# Altium footprint library SparkFun-Electromechanical.PCBLIB: 17 footprints (part 1 of 2)
Each footprint in its own frame and in the unit in brackets; x right, y up, seen from the top. Pads: shape width x height; smd on the part's side, far side on the other; paste and mask are expansions set on the pad; w line width, h text height; cw(c..) or ccw(c..) is an arc to the next point about the centre after c.
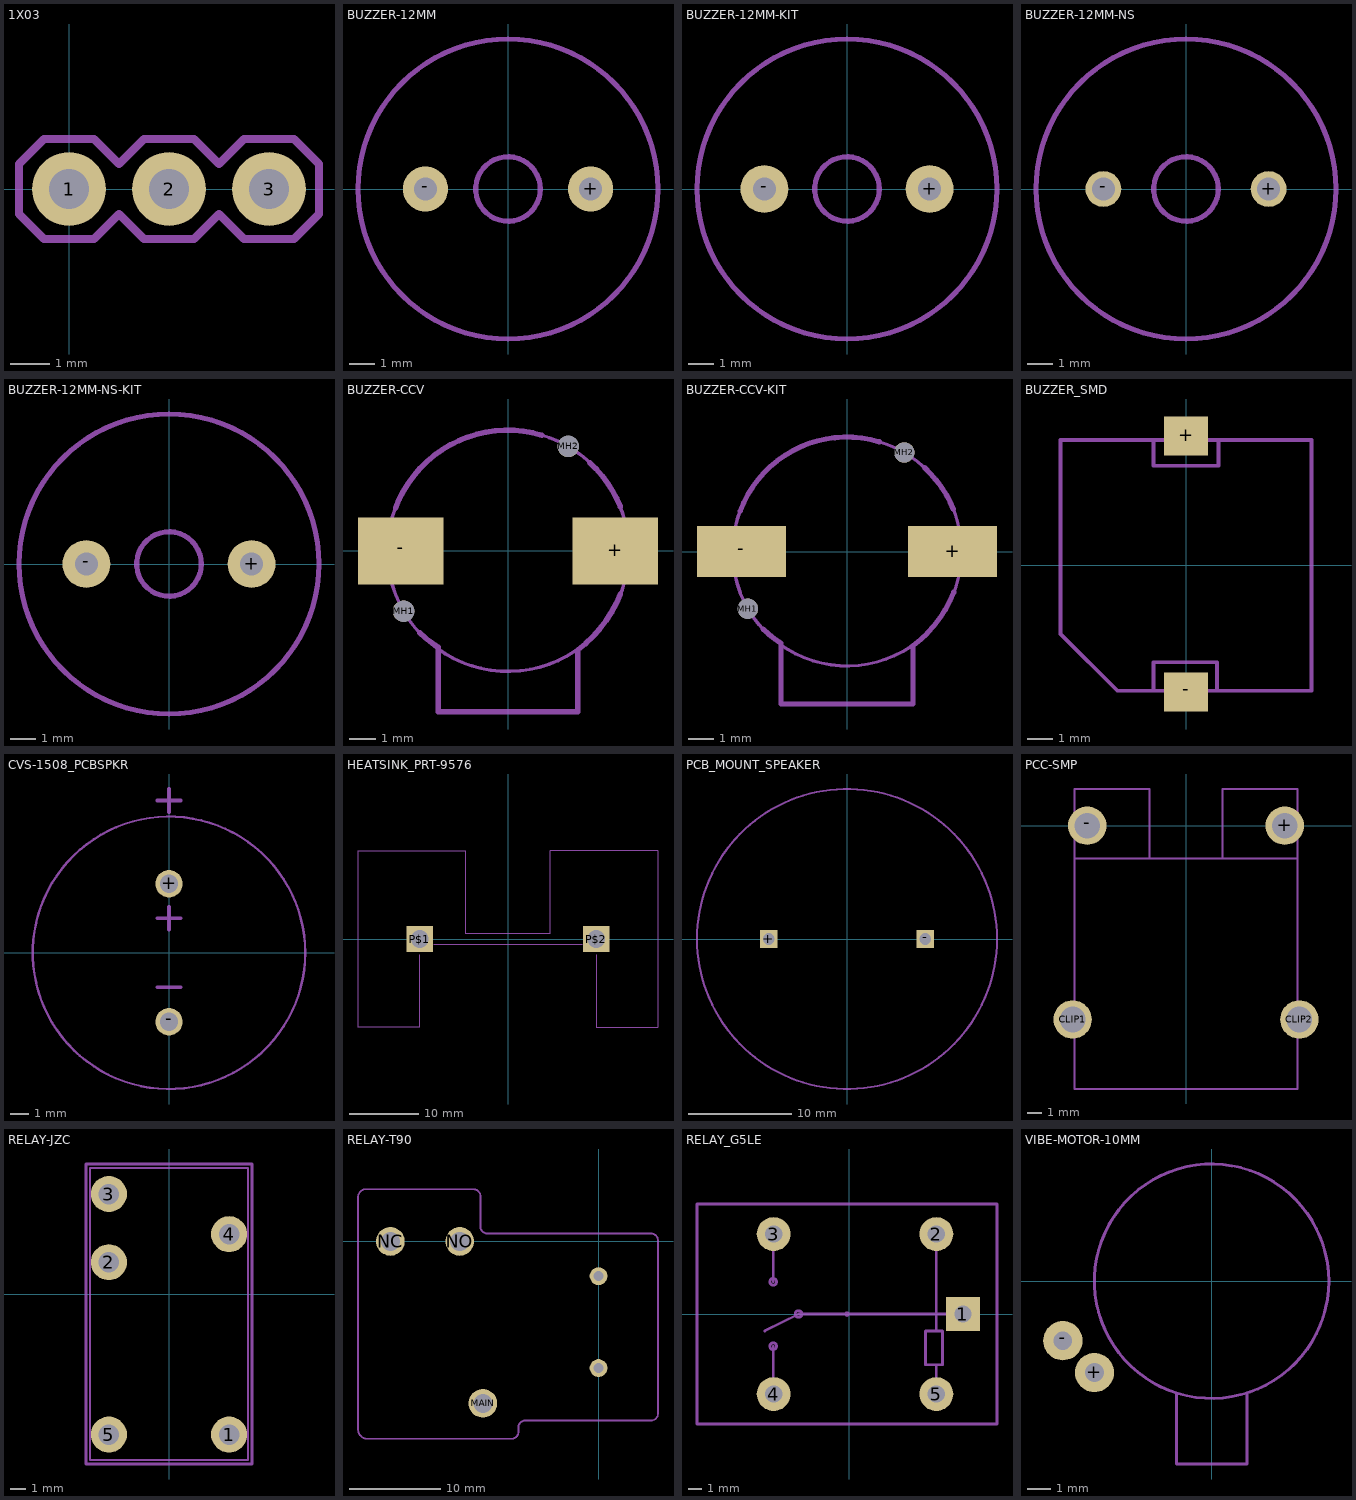
[diagram p0: the footprints below, top view; thin cyan lines are the x and y axes]

## 1X03 [mil]
pads (3):
  round 74 hole 40: 1(0,0) 2(100,0) 3(200,0)
tDocu:
  region: 190,-10 190,10 210,10 210,-10
  region: 90,-10 90,10 110,10 110,-10
  region: -10,-10 -10,10 10,10 10,-10
tPlace:
  lines w8: -50,-25 -50,25 -25,50 25,50 50,25 75,50 125,50 150,25 175,50 225,50 250,25 250,-25 225,-50 175,-50 150,-25 125,-50 75,-50 50,-25 25,-50 -25,-50 -50,-25

## BUZZER-12MM [mil]
pads (2):
  round 70 hole 35.43: +(127.95,0) -(-127.95,0)
tDocu:
  circle w8: c0,0 r50
tPlace:
  circle w8: c0,0 r232.28

## BUZZER-12MM-KIT [mil]
pads (2):
  round 74 hole 35.43: +(127.95,0) -(-127.95,0)
Top Solder:
  region: 128,-17.5 124.6,-17.58 118.25,-15.12 113.33,-10.43 110.58,-4.2 110.5,-0.8 110.41,2.77 112.98,9.44 117.9,14.61 124.43,17.51 128,17.6 131.52,17.54 137.98,14.74 142.88,9.67 145.46,3.12 145.4,-0.4 145.37,-3.83 142.69,-10.15 137.79,-14.96 131.43,-17.53 128,-17.5
  region: -128,-17.5 -131.4,-17.58 -137.75,-15.12 -142.67,-10.43 -145.42,-4.2 -145.5,-0.8 -145.59,2.77 -143.02,9.44 -138.1,14.61 -131.57,17.51 -128,17.6 -124.48,17.54 -118.02,14.74 -113.12,9.67 -110.54,3.12 -110.6,-0.4 -110.63,-3.83 -113.31,-10.15 -118.21,-14.96 -124.57,-17.53 -128,-17.5
Bottom Solder:
  region: 128.1,-37.5 124.45,-37.55 117.26,-36.22 110.47,-33.51 104.34,-29.54 99.1,-24.44 94.96,-18.42 92.07,-11.7 90.55,-4.55 90.5,-0.9 90.46,2.84 91.83,10.19 94.6,17.13 98.68,23.39 103.91,28.74 110.07,32.97 116.95,35.91 124.26,37.46 128,37.5 131.74,37.45 139.05,35.88 145.91,32.92 152.07,28.68 157.28,23.31 161.34,17.04 164.1,10.09 165.45,2.74 165.4,-1 165.36,-4.63 163.87,-11.75 161.01,-18.43 156.91,-24.44 151.71,-29.52 145.63,-33.49 138.88,-36.2 131.73,-37.54 128.1,-37.5
  region: -127.9,-37.5 -131.55,-37.55 -138.74,-36.22 -145.53,-33.51 -151.66,-29.54 -156.9,-24.44 -161.04,-18.42 -163.93,-11.7 -165.45,-4.55 -165.5,-0.9 -165.54,2.84 -164.17,10.19 -161.4,17.13 -157.32,23.39 -152.09,28.74 -145.93,32.97 -139.05,35.91 -131.74,37.46 -128,37.5 -124.26,37.45 -116.95,35.88 -110.09,32.92 -103.93,28.68 -98.72,23.31 -94.66,17.04 -91.9,10.09 -90.55,2.74 -90.6,-1 -90.64,-4.63 -92.13,-11.75 -94.99,-18.43 -99.09,-24.44 -104.29,-29.52 -110.37,-33.49 -117.12,-36.2 -124.27,-37.54 -127.9,-37.5
tDocu:
  circle w8: c0,0 r50
  text "+" at 105,45 h108.5
tPlace:
  circle w8: c0,0 r232.28

## BUZZER-12MM-NS [mil]
pads (2):
  round 55.43 hole 35.43: +(127.95,0) -(-127.95,0)
tDocu:
  circle w8: c0,0 r232.28
  circle w8: c0,0 r50
  text "+" at 105,45 h108.5

## BUZZER-12MM-NS-KIT [mil]
pads (2):
  round 74 hole 35.43: +(127.95,0) -(-127.95,0)
Top Solder:
  region: 128,-17.5 124.6,-17.58 118.25,-15.12 113.33,-10.43 110.58,-4.2 110.5,-0.8 110.41,2.77 112.98,9.44 117.9,14.61 124.43,17.51 128,17.6 131.52,17.54 137.98,14.74 142.88,9.67 145.46,3.12 145.4,-0.4 145.37,-3.83 142.69,-10.15 137.79,-14.96 131.43,-17.53 128,-17.5
  region: -128,-17.5 -131.4,-17.58 -137.75,-15.12 -142.67,-10.43 -145.42,-4.2 -145.5,-0.8 -145.59,2.77 -143.02,9.44 -138.1,14.61 -131.57,17.51 -128,17.6 -124.48,17.54 -118.02,14.74 -113.12,9.67 -110.54,3.12 -110.6,-0.4 -110.63,-3.83 -113.31,-10.15 -118.21,-14.96 -124.57,-17.53 -128,-17.5
Bottom Solder:
  region: 128.1,-37.5 124.45,-37.55 117.26,-36.22 110.47,-33.51 104.34,-29.54 99.1,-24.44 94.96,-18.42 92.07,-11.7 90.55,-4.55 90.5,-0.9 90.46,2.84 91.83,10.19 94.6,17.13 98.68,23.39 103.91,28.74 110.07,32.97 116.95,35.91 124.26,37.46 128,37.5 131.74,37.45 139.05,35.88 145.91,32.92 152.07,28.68 157.28,23.31 161.34,17.04 164.1,10.09 165.45,2.74 165.4,-1 165.36,-4.63 163.87,-11.75 161.01,-18.43 156.91,-24.44 151.71,-29.52 145.63,-33.49 138.88,-36.2 131.73,-37.54 128.1,-37.5
  region: -127.9,-37.5 -131.55,-37.55 -138.74,-36.22 -145.53,-33.51 -151.66,-29.54 -156.9,-24.44 -161.04,-18.42 -163.93,-11.7 -165.45,-4.55 -165.5,-0.9 -165.54,2.84 -164.17,10.19 -161.4,17.13 -157.32,23.39 -152.09,28.74 -145.93,32.97 -139.05,35.91 -131.74,37.46 -128,37.5 -124.26,37.45 -116.95,35.88 -110.09,32.92 -103.93,28.68 -98.72,23.31 -94.66,17.04 -91.9,10.09 -90.55,2.74 -90.6,-1 -90.64,-4.63 -92.13,-11.75 -94.99,-18.43 -99.09,-24.44 -104.29,-29.52 -110.37,-33.49 -117.12,-36.2 -124.27,-37.54 -127.9,-37.5
tDocu:
  circle w8: c0,0 r232.28
  circle w8: c0,0 r50
  text "+" at 105,45 h108.5

## BUZZER-CCV [mil]
pads (4):
  rect 125.98x98.43 smd: +(157.48,0) -(-157.48,0)
  round 31.5 hole 31.5 unplated: MH1(-153.54,-88.58) MH2(88.58,153.54)
tDocu:
  circle w5: c0,0 r177.17
  lines w5: -102.36,-145.67 -102.36,-236.22 102.36,-236.22 102.36,-145.67
tPlace:
  lines w8: -165.35,62.99 cw(c-0.44,1.31) 50,170 ; -130,-120 ccw(c-20.21,-8.79) -102.36,-141.73 -102.36,-236.22 102.36,-236.22 102.36,-145.67 ccw(c-12.21,6.95) 165.35,-62.99 ; 120,130 cw(c0,-1.15) 165,65

## BUZZER-CCV-KIT [mil]
pads (4):
  rect 137.8x78.74 smd: +(163.39,0) -(-163.39,0)
  round 31.5 hole 31.5 unplated: MH1(-153.54,-88.58) MH2(88.58,153.54)
tDocu:
  circle w5: c0,0 r177.17
  region: -204.72,-29.53 -204.72,29.53 -114.17,29.53 -114.17,-29.53
  region: 204.72,29.53 204.72,-29.53 114.17,-29.53 114.17,29.53
  lines w5: -102.36,-145.67 -102.36,-236.22 102.36,-236.22 102.36,-145.67
tPlace:
  lines w8: -165.35,62.99 cw(c-0.44,1.31) 50,170 ; -130,-120 ccw(c-20.21,-8.79) -102.36,-141.73 -102.36,-236.22 102.36,-236.22 102.36,-145.67 ccw(c-12.21,6.95) 165.35,-62.99 ; 120,130 cw(c0,-1.15) 165,65

## BUZZER_SMD [mm]
pads (2):
  rect 1.7x1.5 smd: +(0,5) -(0,-4.9)
tDocu:
  lines w0.152: -4.85,-2.65 -4.85,4.85 4.85,4.85 4.85,-4.85 -2.65,-4.85 -4.85,-2.65
tPlace:
  lines w0.152: -4.85,-2.65 -4.85,4.85 -1.25,4.85 -1.25,3.85 1.25,3.85 1.25,4.85 4.85,4.85 4.85,-4.85 1.2,-4.85 1.2,-3.75 -1.25,-3.75 -1.25,-4.85 -2.65,-4.85 -4.85,-2.65

## CVS-1508_PCBSPKR [mm]
pads (2):
  round 1.508 hole 1: +(0,3.8) -(0,-3.8)
tDocu:
  circle w0.127: c0,0 r7.5
tPlace:
  lines w0.203: -0.635,-1.905 0.635,-1.905 ; -0.635,1.905 0.635,1.905 ; -0.635,8.382 0.635,8.382 ; 0,1.27 0,2.54 ; 0,7.747 0,9.017
bPlace:
  lines w0.203: -0.635,-1.905 0.635,-1.905 ; -0.635,1.905 0.635,1.905 ; 0,1.27 0,2.54

## HEATSINK_PRT-9576 [mil]
pads (2):
  rect 150x150 / inner round 138.58 / far side rect 150x150 hole 100: P$1(-500,0) P$2(500,0)
tPlace:
  lines w5: -500,-90 -500,-500 -850,-500 -850,500 -240,500 -240,30 240,30 240,500 850,500 850,-500 500,-500 500,-90 ; -420,-30 420,-30

## PCB_MOUNT_SPEAKER [mil]
pads (2):
  rect 67.5x67.5 / inner round 62.36 / far side rect 67.5x67.5 hole 45: +(-300,0) -(300,0)
tPlace:
  circle w8: c0,0 r575

## PCC-SMP [mil]
pads (4):
  round 105 hole 70: +(270,0) -(-270,0) CLIP1(-310,-530) CLIP2(310,-530)
tDocu:
  lines w5: -305,-90 -100,-90 ; 305,-90 100,-90 ; -100,-90 100,-90 ; -100,-90 -100,100 -305,100 -305,-720 305,-720 305,100 100,100 100,-90
  text "1/4\" Tall" at 0,-650 h108.5
  text "Connector" at 0,-195 h108.5
  text "This" at 0,-300 h108.5
  text "Side" at 0,-405 h108.5

## RELAY-JZC [mil]
pads (5):
  round 90 hole 51.18: 1(150,-350) 2(-150,80) 3(-150,250) 4(150,150) 5(-150,-350)
tDocu:
  lines w5: -196.85,-413.39 196.85,-413.39 196.85,314.96 -196.85,314.96 -196.85,-413.39
tPlace:
  lines w8: -206.85,-423.39 -206.85,324.96 206.85,324.96 206.85,-423.39 -206.85,-423.39

## RELAY-T90 [mil]
pads (5):
  round 77 hole 43.31: COIL1(0,-547.24) COIL2(0,-150)
  round 124.02 hole 82.68: MAIN(-500,-700) NC(-900,0) NO(-600,0)
tPlace:
  lines w8: -1039.76,-813.58 -1039.76,186.42 cw(c-1005.33,191.08) -1003.94,225.79 -540.35,225.79 cw(c-541.09,195.4) -510.83,198.23 -510.83,61.81 ccw(c-480.56,64.64) -481.3,34.25 227.36,34.25 cw(c226.62,3.86) 256.89,6.69 256.89,-746.65 cw(c225.72,-743.37) 231.3,-774.21 -317.32,-774.21 ccw(c-316.58,-804.6) -346.85,-801.77 -346.85,-825.39 cw(c-375.06,-824.76) -376.38,-852.95 -1003.94,-852.95 cw(c-999.71,-813.12) -1039.76,-813.58

## RELAY_G5LE [mil]
pads (5):
  rect 100x100 / inner round 92.39 / far side rect 100x100 hole 51.18: 1(335.43,-0.2)
  round 100 hole 51.18: 2(256.69,236.02) 3(-223.62,236.02) 4(-223.62,-236.42) 5(256.69,-236.42)
tPlace:
  circle w8: c-7.09,-0.2 r3.94
  circle w8: c-225,-95 r10
  circle w8: c-225,95 r10
  circle w8: c-7.09,-0.2 r3.94
  circle w8: c-225,-95 r10
  circle w8: c-225,95 r10
  circle w8: c-150,0 r10
  circle w8: c-225,-95 r10
  circle w8: c-225,95 r10
  circle w8: c-150,0 r10
  lines w8: -450,324.61 -450,-325 435.83,-325 435.83,324.61 ; -450,325 435.83,325 ; -250,-50 -150,0 300,0 ; -225,-195 -225,-95 ; -225,95 -225,195 ; 256.69,-200 256.69,-150 ; 256.69,-50 256.69,200 ; 225,-150 225,-50 275,-50 275,-150 225,-150
bPlace:
  circle w8: c-150,0 r10
  circle w8: c-225,95 r10
  circle w8: c-225,-95 r10
  lines w8: -250,-50 -150,0 300,0 ; -225,-195 -225,-95 ; -225,95 -225,195 ; 256.69,-200 256.69,-150 ; 256.69,-50 256.69,200 ; 225,-150 225,-50 275,-50 275,-150 225,-150

## VIBE-MOTOR-10MM [mil]
pads (2):
  round 66 hole 31.5: +(-196.85,-153.54) -(-250,-100)
tDocu:
  circle w5: c0,0 r196.89
  lines w5: -59.06,-188.98 -59.06,-307.09 59.06,-307.09 59.06,-188.98
tPlace:
  text "-" at -267.72,-78.74 h77.5
  text "+" at -185.04,-208.66 h77.5